# Altium schematic symbol library D_Connectors.SchLib: 1 symbol
Pins are listed as number, name and electrical type; pins without a type are passive.

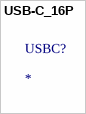
[diagram p0: symbol USB-C_16P]

## USB-C_16P
designator USBC?